# Altium footprint library Other_3D.PcbLib: 1 footprints
Each footprint in its own frame and in the unit in brackets; x right, y up, seen from the top. Pads: shape width x height; smd on the part's side, far side on the other; paste and mask are expansions set on the pad; w line width, h text height; cw(c..) or ccw(c..) is an arc to the next point about the centre after c.

## MENTOR 2656.8122 [mm]
3D body: height 10, standoff 9, extent -40,-12.5 -14.5,7.5
3D body: height 31, standoff 28, extent -44,7.5 -10.5,11.5
3D body: height 31, standoff 28, extent -14.5,-16.5 -10.5,11.5
3D body: height 31, standoff 28, extent -44,-16.5 -40,11.5
3D body: height 31, standoff 28, extent -44,-16.5 -10.5,-12.5